# EAGLE library part SW_4PDT_7104_VERT (library wheat)
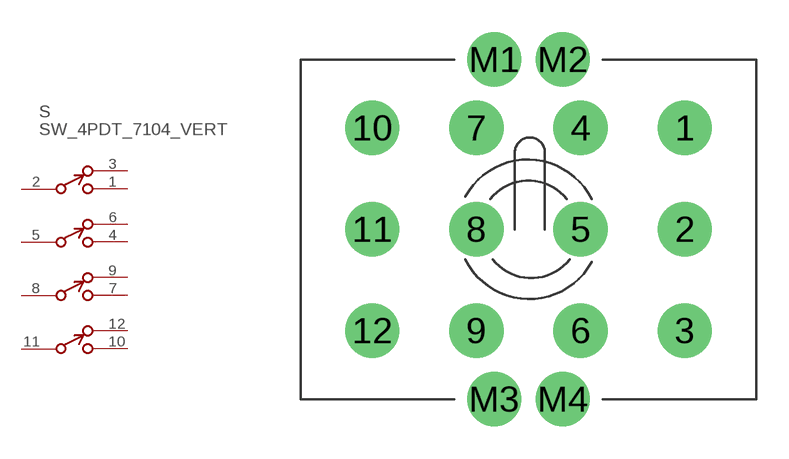
[diagram p243: symbol with the pads of SW_4PDT_7104_VERT; footprint SW_4PDT_7104_VERT]

Designator prefix S

## SW_4PDT_7104_VERT  [SW_4PDT_7104_VERT]
1  1NO  pas
2  1C  pas
3  1NC  pas
4  2NO  pas
5  2C  pas
6  2NC  pas
7  3NO  pas
8  3C  pas
9  3NC  pas
10  4NO  pas
11  4C  pas
12  4NC  pas

## Footprint SW_4PDT_7104_VERT (pad centres in mm)
drill 1.676: 1 7.239,4.699; 2 7.239,0; 3 7.239,-4.699; 4 2.413,4.699; 5 2.413,0; 6 2.413,-4.699; 7 -2.413,4.699; 8 -2.413,0; 9 -2.413,-4.699; 10 -7.239,4.699; 11 -7.239,0; 12 -7.239,-4.699; M1 -1.587,7.874; M2 1.587,7.874; M3 -1.587,-7.874; M4 1.587,-7.874